# Altium footprint library sld_design_v1.PcbLib: 9 footprints
Each footprint in its own frame and in the unit in brackets; x right, y up, seen from the top. Pads: shape width x height; smd on the part's side, far side on the other; paste and mask are expansions set on the pad; w line width, h text height; cw(c..) or ccw(c..) is an arc to the next point about the centre after c.
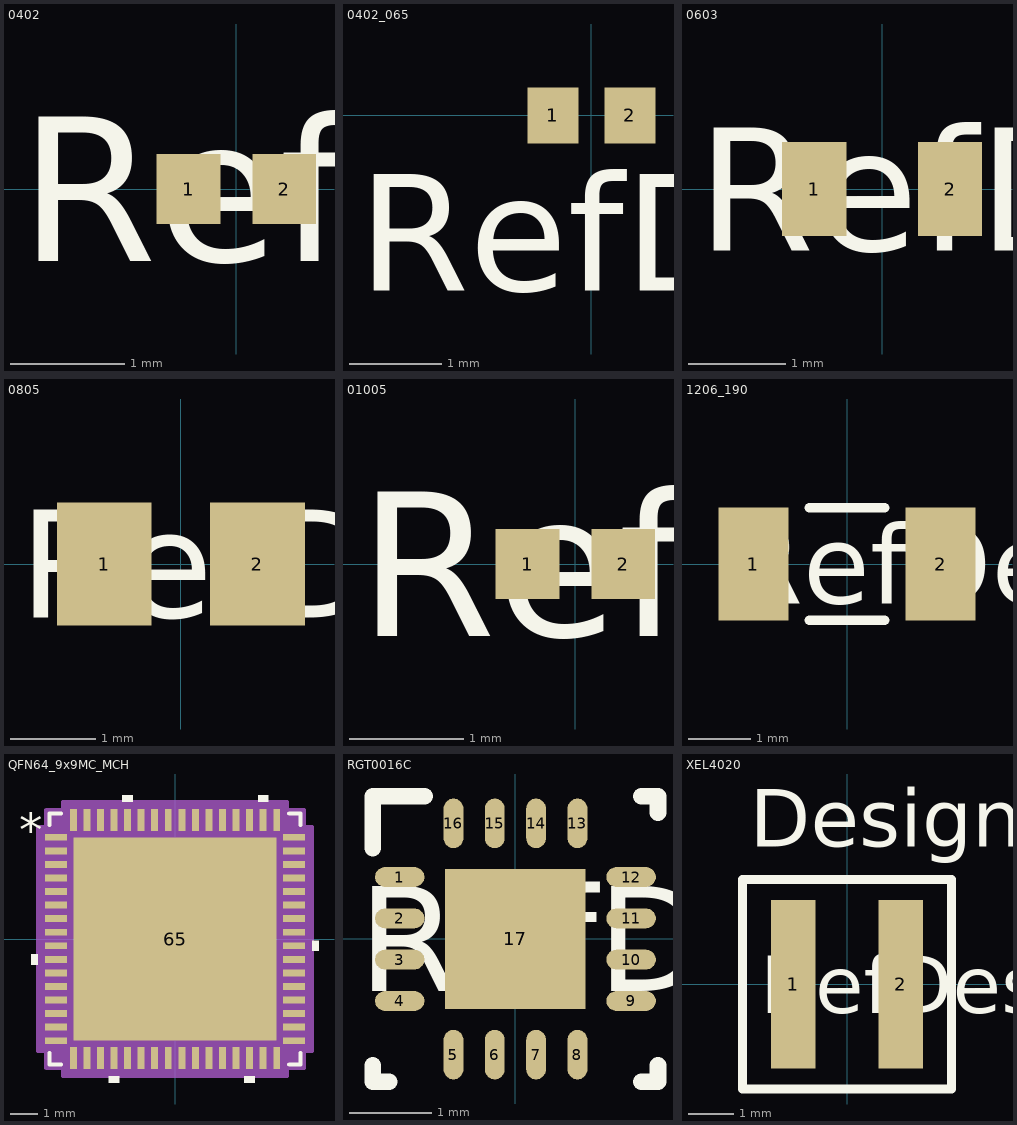
[diagram p0: the footprints below, top view; thin cyan lines are the x and y axes]

## 0402 [mil]
pads (2):
  rect 22x24 smd: 1(-16.5,0) 2(16.5,0)
Top Overlay:
  text "RefDes" at -75,-25 h50
3D body: height 10, standoff 0, extent 0,0 10,10

## 0402_065 [mil]
pads (2):
  rect 22x24 smd: 1(-16.5,0) 2(16.5,0)
Top Overlay:
  text "RefDes" at -100,-75 h50
3D body: height 10, standoff 0, extent 0,0 10,10

## 0603 [mil]
pads (2):
  rect 26x38 smd: 1(-27.5,0) 2(27.5,0)
Top Overlay:
  text "RefDes" at -75,-25 h50
3D body: height 10, standoff 0, extent 0,0 10,10

## 0805 [mil]
pads (2):
  rect 44x57 smd: 1(-35.5,0) 2(35.5,0)
Top Overlay:
  text "RefDes" at -75,-25 h50
3D body: height 10, standoff 0, extent 0,0 10,10

## 01005 [mil]
pads (2):
  rect 22x24 smd: 1(-16.5,0) 2(16.5,0)
Top Overlay:
  text "RefDes" at -75,-25 h50
3D body: height 10, standoff 0, extent 0,0 10,10

## 1206_190 [mil]
pads (2):
  rect 44x71 smd: 1(-59,0) 2(59,0)
Top Overlay:
  lines w6: -23.9,-35.5 23.9,-35.5 ; -23.9,35.5 23.9,35.5
  text "RefDes" at -75,-25 h50
3D body: height 10, standoff 0, extent 0,0 10,10

## QFN64_9x9MC_MCH [mil]
pads (65):
  rect 32x10 smd paste+0 mask+0: 1(-173,147.64) 2(-173,127.95) 3(-173,108.27) 4(-173,88.58) 5(-173,68.9) 6(-173,49.21) 7(-173,29.53) 8(-173,9.84) 9(-173,-9.84) 10(-173,-29.53) 11(-173,-49.21) 12(-173,-68.9) 13(-173,-88.58) 14(-173,-108.27) 15(-173,-127.95) 16(-173,-147.64) 33(173,-147.64) 34(173,-127.95) 35(173,-108.27) 36(173,-88.58) 37(173,-68.9) 38(173,-49.21) 39(173,-29.53) 40(173,-9.84) 41(173,9.84) 42(173,29.53) 43(173,49.21) 44(173,68.9) 45(173,88.58) 46(173,108.27) 47(173,127.95) 48(173,147.64)
  rect 10x32 smd paste+0 mask+0: 17(-147.64,-173) 18(-127.95,-173) 19(-108.27,-173) 20(-88.58,-173) 21(-68.9,-173) 22(-49.21,-173) 23(-29.53,-173) 24(-9.84,-173) 25(9.84,-173) 26(29.53,-173) 27(49.21,-173) 28(68.9,-173) 29(88.58,-173) 30(108.27,-173) 31(127.95,-173) 32(147.64,-173) 49(147.64,173) 50(127.95,173) 51(108.27,173) 52(88.58,173) 53(68.9,173) 54(49.21,173) 55(29.53,173) 56(9.84,173) 57(-9.84,173) 58(-29.53,173) 59(-49.21,173) 60(-68.9,173) 61(-88.58,173) 62(-108.27,173) 63(-127.95,173) 64(-147.64,173)
  rect 295x295 smd paste-147.5 mask+0: 65(0,0)
Top Overlay:
  region: -61.4,199 -76.4,199 -76.4,209 -61.4,209
  region: 135.45,199 120.45,199 120.45,209 135.45,209
  region: 199,-2.34 209,-2.34 209,-17.34 199,-17.34
  region: 115.77,-199 100.77,-199 100.77,-209 115.77,-209
  region: -81.08,-199 -96.08,-199 -96.08,-209 -81.08,-209
  region: -199,-22.03 -209,-22.03 -209,-37.03 -199,-37.03
  lines w6: -182,-165.74 -182,-182 -165.74,-182 ; -182,165.74 -182,182 -165.74,182 ; 165.74,-182 182,-182 182,-165.74 ; 165.74,182 182,182 182,165.74
  text "*" at -226.5,132.48 h50
Top Paste:
  region: 143.56,-92.44 92.44,-92.44 92.44,-143.56 143.56,-143.56
  region: 143.56,-33.44 92.44,-33.44 92.44,-84.56 143.56,-84.56
  region: 143.56,25.56 92.44,25.56 92.44,-25.56 143.56,-25.56
  region: 143.56,84.56 92.44,84.56 92.44,33.44 143.56,33.44
  region: 143.56,143.56 92.44,143.56 92.44,92.44 143.56,92.44
  region: 84.56,-92.44 33.44,-92.44 33.44,-143.56 84.56,-143.56
  region: 84.56,-33.44 33.44,-33.44 33.44,-84.56 84.56,-84.56
  region: 84.56,25.56 33.44,25.56 33.44,-25.56 84.56,-25.56
  region: 84.56,84.56 33.44,84.56 33.44,33.44 84.56,33.44
  region: 84.56,143.56 33.44,143.56 33.44,92.44 84.56,92.44
  region: 25.56,-92.44 -25.56,-92.44 -25.56,-143.56 25.56,-143.56
  region: 25.56,-33.44 -25.56,-33.44 -25.56,-84.56 25.56,-84.56
  region: 25.56,25.56 -25.56,25.56 -25.56,-25.56 25.56,-25.56
  region: 25.56,84.56 -25.56,84.56 -25.56,33.44 25.56,33.44
  region: 25.56,143.56 -25.56,143.56 -25.56,92.44 25.56,92.44
  region: -33.44,-92.44 -84.56,-92.44 -84.56,-143.56 -33.44,-143.56
  region: -33.44,-33.44 -84.56,-33.44 -84.56,-84.56 -33.44,-84.56
  region: -33.44,25.56 -84.56,25.56 -84.56,-25.56 -33.44,-25.56
  region: -33.44,84.56 -84.56,84.56 -84.56,33.44 -33.44,33.44
  region: -33.44,143.56 -84.56,143.56 -84.56,92.44 -33.44,92.44
  region: -92.44,-92.44 -143.56,-92.44 -143.56,-143.56 -92.44,-143.56
  region: -92.44,-33.44 -143.56,-33.44 -143.56,-84.56 -92.44,-84.56
  region: -92.44,25.56 -143.56,25.56 -143.56,-25.56 -92.44,-25.56
  region: -92.44,84.56 -143.56,84.56 -143.56,33.44 -92.44,33.44
  region: -92.44,143.56 -143.56,143.56 -143.56,92.44 -92.44,92.44
Mechanical 13:
  lines w1: -177,127 -127,177 ; -177,-177 -177,177 177,177 177,-177 -177,-177 ; -177,-153.64 -177,-141.64 -177,-153.64 ; -177,-133.95 -177,-121.95 -177,-133.95 ; -177,-114.27 -177,-102.27 -177,-114.27 ; -177,-94.58 -177,-82.58 -177,-94.58 ; -177,-74.9 -177,-62.9 -177,-74.9 ; -177,-55.21 -177,-43.21 -177,-55.21 ; -177,-35.53 -177,-23.53 -177,-35.53 ; -177,-15.84 -177,-3.84 -177,-15.84 ; -177,3.84 -177,15.84 -177,3.84 ; -177,23.53 -177,35.53 -177,23.53 ; -177,43.21 -177,55.21 -177,43.21 ; -177,62.9 -177,74.9 -177,62.9 ; -177,82.58 -177,94.58 -177,82.58 ; -177,102.27 -177,114.27 -177,102.27 ; -177,121.95 -177,133.95 -177,121.95 ; -177,141.64 -177,153.64 -177,141.64 ; -153.64,-177 -141.64,-177 -153.64,-177 ; -153.64,177 -141.64,177 -153.64,177 ; -133.95,-177 -121.95,-177 -133.95,-177 ; -133.95,177 -121.95,177 -133.95,177 ; -114.27,-177 -102.27,-177 -114.27,-177 ; -114.27,177 -102.27,177 -114.27,177 ; -94.58,-177 -82.58,-177 -94.58,-177 ; -94.58,177 -82.58,177 -94.58,177 ; -74.9,-177 -62.9,-177 -74.9,-177 ; -74.9,177 -62.9,177 -74.9,177 ; -55.21,-177 -43.21,-177 -55.21,-177 ; -55.21,177 -43.21,177 -55.21,177 ; -35.53,-177 -23.53,-177 -35.53,-177 ; -35.53,177 -23.53,177 -35.53,177 ; -15.84,-177 -3.84,-177 -15.84,-177 ; -15.84,177 -3.84,177 -15.84,177 ; 3.84,-177 15.84,-177 3.84,-177 ; 3.84,177 15.84,177 3.84,177 ; 23.53,-177 35.53,-177 23.53,-177 ; 23.53,177 35.53,177 23.53,177 ; 43.21,-177 55.21,-177 43.21,-177 ; 43.21,177 55.21,177 43.21,177 ; 62.9,-177 74.9,-177 62.9,-177 ; 62.9,177 74.9,177 62.9,177 ; 82.58,-177 94.58,-177 82.58,-177 ; 82.58,177 94.58,177 82.58,177 ; 102.27,-177 114.27,-177 102.27,-177 ; 102.27,177 114.27,177 102.27,177 ; 121.95,-177 133.95,-177 121.95,-177 ; 121.95,177 133.95,177 121.95,177 ; 141.64,-177 153.64,-177 141.64,-177 ; 141.64,177 153.64,177 141.64,177 ; 177,-153.64 177,-141.64 177,-153.64 ; 177,-133.95 177,-121.95 177,-133.95 ; 177,-114.27 177,-102.27 177,-114.27 ; 177,-94.58 177,-82.58 177,-94.58 ; 177,-74.9 177,-62.9 177,-74.9 ; 177,-55.21 177,-43.21 177,-55.21 ; 177,-35.53 177,-23.53 177,-35.53 ; 177,-15.84 177,-3.84 177,-15.84 ; 177,3.84 177,15.84 177,3.84 ; 177,23.53 177,35.53 177,23.53 ; 177,43.21 177,55.21 177,43.21 ; 177,62.9 177,74.9 177,62.9 ; 177,82.58 177,94.58 177,82.58 ; 177,102.27 177,114.27 177,102.27 ; 177,121.95 177,133.95 177,121.95 ; 177,141.64 177,153.64 177,141.64
  text "*" at -169.5,132.48 h50
Mechanical 15:
  region: -162.64,-187 -187,-187 -187,-162.64 -199,-162.64 -199,162.64 -187,162.64 -187,187 -162.64,187 -162.64,199 162.64,199 162.64,187 187,187 187,162.64 199,162.64 199,-162.64 187,-162.64 187,-187 162.64,-187 162.64,-199 -162.64,-199
  lines w6: -199,-162.64 -199,162.64 -187,162.64 -187,187 -162.64,187 -162.64,199 162.64,199 162.64,187 187,187 187,162.64 199,162.64 199,-162.64 187,-162.64 187,-187 162.64,-187 162.64,-199 -162.64,-199 -162.64,-187 -187,-187 -187,-162.64 -199,-162.64
3D body "QFN64_9x9MC_MCH.step": height 39.09, standoff 0, extent -177.01,-177.01 177.01,177.01

## RGT0016C [mm]
pads (17):
  oval 0.6x0.24 smd paste-0.102 mask+0.051: 1(-1.4,0.75) 2(-1.4,0.25) 3(-1.4,-0.25) 4(-1.4,-0.75) 9(1.4,-0.75) 10(1.4,-0.25) 11(1.4,0.25) 12(1.4,0.75)
  oval 0.24x0.6 smd paste-0.102 mask+0.051: 5(-0.75,-1.4) 6(-0.25,-1.4) 7(0.25,-1.4) 8(0.75,-1.4) 13(0.75,1.4) 14(0.25,1.4) 15(-0.25,1.4) 16(-0.75,1.4)
  rect 1.7x1.7 smd paste-0.85 mask+0.051: 17(0,0)
Top Overlay:
  lines w0.2: -1.725,-1.525 -1.725,-1.725 -1.525,-1.725 ; -1.725,1.1 -1.725,1.725 -1.1,1.725 ; 1.525,-1.725 1.725,-1.725 1.725,-1.525 ; 1.525,1.725 1.725,1.725 1.725,1.525
  text "RefDes" at -1.905,-0.635 h1.27
Top Paste:
  region: -0.774,0.774 -0.774,-0.774 0.774,-0.774 0.774,0.774
3D body: height 0.25, standoff 0, extent 0,0 0.254,0.254

## XEL4020 [mm]
pads (2):
  rect 0.98x3.7 smd paste+0 mask+0.051: 1(-1.185,0) 2(1.185,0)
Top Overlay:
  lines w0.2: -2.3,-2.3 -2.3,2.3 2.3,2.3 2.3,-2.3 -2.3,-2.3
  text "RefDes" at -1.905,-0.635 h1.27
  text "Designator586" at -2.134,3.023 h1.27
3D body: height 0.25, standoff 0, extent 0,0 0.254,0.254